# Altium footprint library Lib1.PcbLib: 70 footprints (part 5 of 5)
Each footprint in its own frame and in the unit in brackets; x right, y up, seen from the top. Pads: shape width x height; smd on the part's side, far side on the other; paste and mask are expansions set on the pad; w line width, h text height; cw(c..) or ccw(c..) is an arc to the next point about the centre after c.
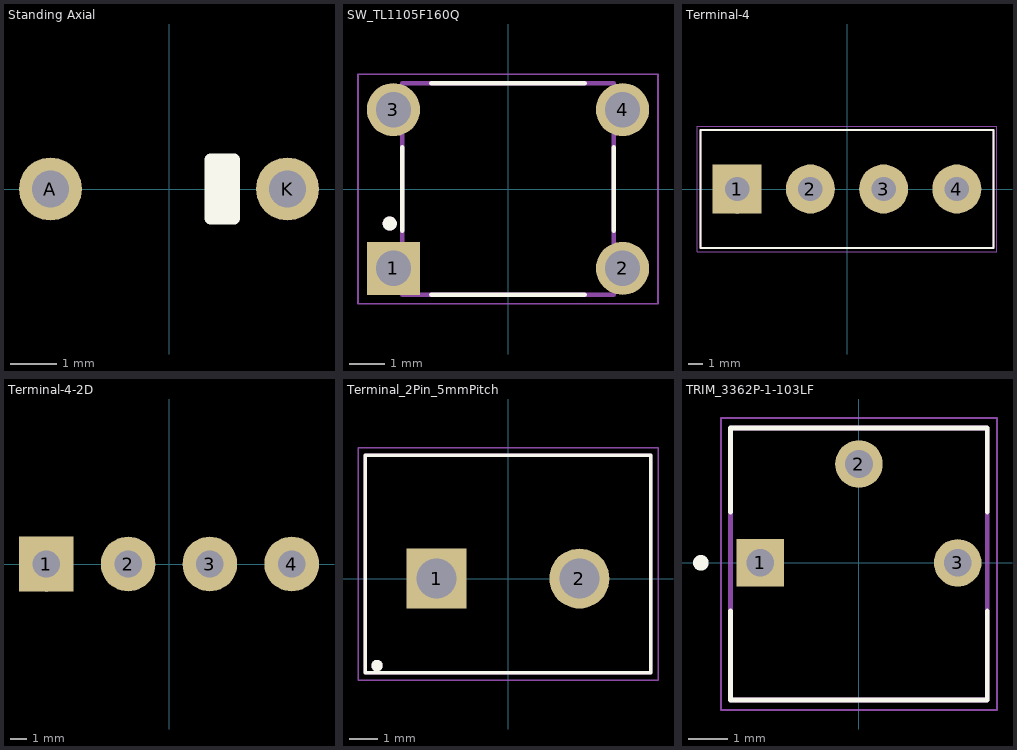
[diagram p4: the footprints below, top view; thin cyan lines are the x and y axes]

## Standing Axial [mm]
pads (2):
  round 1.35 hole 0.8: A(-2.54,0) K(2.54,0)
Top Overlay:
  lines w0.254: 1.016,-0.635 1.016,0.635 ; 1.27,-0.635 1.27,0.635 ; 1.143,-0.635 1.143,0.635 ; 1.143,-0.635 1.397,-0.635 1.397,0.635 1.143,0.635 ; 1.143,-0.635 0.889,-0.635 0.889,0.635 1.143,0.635

## SW_TL1105F160Q [mm]
height 13
pads (4):
  rect 1.508x1.508 / inner round 1.508 / far side rect 1.508x1.508 hole 1: 1(-3.25,-2.25)
  round 1.508 hole 1: 2(3.25,-2.25) 3(-3.25,2.25) 4(3.25,2.25)
Top Overlay:
  circle w0.2: c-3.353,-0.98 r0.1
  lines w0.127: -3,-1.182 -3,1.182 ; -2.183,-3 2.183,-3 ; -2.183,3 2.183,3 ; 3,-1.182 3,1.182
Mechanical 13:
  circle w0.2: c-3.353,-0.98 r0.1
  lines w0.127: -3,-3 3,-3 3,3 -3,3 -3,-3
Mechanical 15:
  lines w0.05: -4.254,-3.254 -4.254,3.254 4.254,3.254 4.254,-3.254 -4.254,-3.254
3D body "step_temp.STEP": height 4.3, standoff -3.55, extent -3.947,-3 3.947,3

## Terminal-4 [mm]
pads (4):
  rect 3.4x3.4 hole 1.7: 1(-7.62,0)
  round 3.4 hole 1.7: 2(-2.54,0) 3(2.54,0) 4(7.62,0)
Top Overlay:
  circle w0.3: c-7.62,-1.397 r0.15
  lines w0.127: -10.16,-4.1 -10.16,4.1 10.16,4.1 10.16,-4.1 -10.16,-4.1
Mechanical 13:
  circle w0.3: c-7.62,0 r0.15
  lines w0.127: -10.16,-4.1 -10.16,4.1 10.16,4.1 10.16,-4.1 -10.16,-4.1
Mechanical 15:
  lines w0.05: -10.41,-4.35 10.41,-4.35 10.41,4.35 -10.41,4.35 -10.41,-4.35
3D body "step_temp.STEP": height 10.02, standoff -3.48, extent -10.714,-4.064 10.206,4.136

## Terminal-4-2D [mm] "4 Pin Terminal - w/o 3d model and overlays"
pads (4):
  rect 3.4x3.4 hole 1.7: 1(-7.62,0)
  round 3.4 hole 1.7: 2(-2.54,0) 3(2.54,0) 4(7.62,0)
Top Overlay:
  circle w0.3: c-7.62,-1.397 r0.15
Mechanical 13:
  circle w0.3: c-7.62,0 r0.15

## Terminal_2Pin_5mmPitch [mm]
pads (2):
  rect 2.1x2.1 hole 1.4: 1(-2.5,0)
  round 2.1 hole 1.4: 2(2.5,0)
Top Overlay:
  circle w0.2: c-4.584,-3.048 r0.1
  lines w0.127: -5,-3.302 5,-3.302 5,4.318 -5,4.318 -5,-3.302
Mechanical 13:
  circle w0.2: c-4.584,-3.048 r0.1
  lines w0.127: -5,-3.302 -5,4.318 5,4.318 5,-3.302 -5,-3.302
Mechanical 15:
  lines w0.05: -5.25,-3.556 -5.25,4.572 5.25,4.572 5.25,-3.556 -5.25,-3.556
3D body "KF301-2P--3DModel-STEP-510211.STEP": height 10, standoff -4.5, extent -5.6,-3.242 5,4.258

## TRIM_3362P-1-103LF [mm]
pads (3):
  rect 1.222x1.222 hole 0.714: 1(-2.54,0)
  round 1.222 hole 0.714: 2(0,2.54) 3(2.54,0)
Top Overlay:
  circle w0.2: c-4.064,0 r0.1
  lines w0.127: -3.3,-3.53 3.3,-3.53 ; -3.3,-3.52 -3.3,-1.235 ; -3.3,1.305 -3.3,3.47 3.3,3.47 3.3,1.305 ; 3.3,-3.52 3.3,-1.235
Mechanical 13:
  lines w0.127: -3.3,-3.53 3.3,-3.53 3.3,3.47 -3.3,3.47 -3.3,-3.53
Mechanical 15:
  lines w0.05: -3.55,-3.78 3.55,-3.78 3.55,3.72 -3.55,3.72 -3.55,-3.78
3D body "3362P-1-103LF.STEP": height 4.88, standoff -5.84, extent -3.3,-3.495 3.3,3.495